# EAGLE library part HMC5883L (library xnemo)
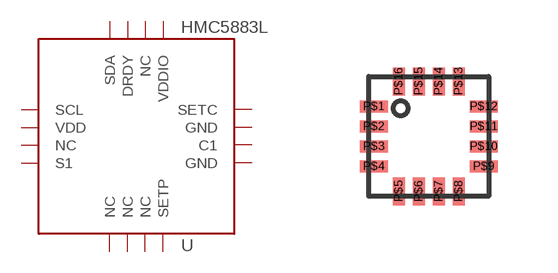
[diagram p4: symbol with the pads of HW_LCC16_3X3; footprint HW_LCC16_3X3]

Designator prefix U

## HMC5883L  [HW_LCC16_3X3]
P$1  SCL
P$2  VDD
P$3  NC
P$4  S1
P$5  NC
P$6  NC
P$7  NC
P$8  SETP
P$9  GND
P$10  C1
P$11  GND
P$12  SETC
P$13  VDDIO
P$14  NC
P$15  DRDY
P$16  SDA

## Footprint HW_LCC16_3X3 (pad centres in mm)
smd 0.7 x 0.3: P$1 -1.375,0.75; P$2 -1.375,0.25; P$3 -1.375,-0.25; P$4 -1.375,-0.75; P$9 1.375,-0.75; P$10 1.375,-0.25; P$11 1.375,0.25; P$12 1.375,0.75
smd 0.3 x 0.7: P$5 -0.75,-1.375; P$6 -0.25,-1.375; P$7 0.25,-1.375; P$8 0.75,-1.375; P$13 0.75,1.375; P$14 0.25,1.375; P$15 -0.25,1.375; P$16 -0.75,1.375